# Altium footprint library POGO.PcbLib: 28 footprints (part 1 of 3)
Each footprint in its own frame and in the unit in brackets; x right, y up, seen from the top. Pads: shape width x height; smd on the part's side, far side on the other; paste and mask are expansions set on the pad; w line width, h text height; cw(c..) or ccw(c..) is an arc to the next point about the centre after c.
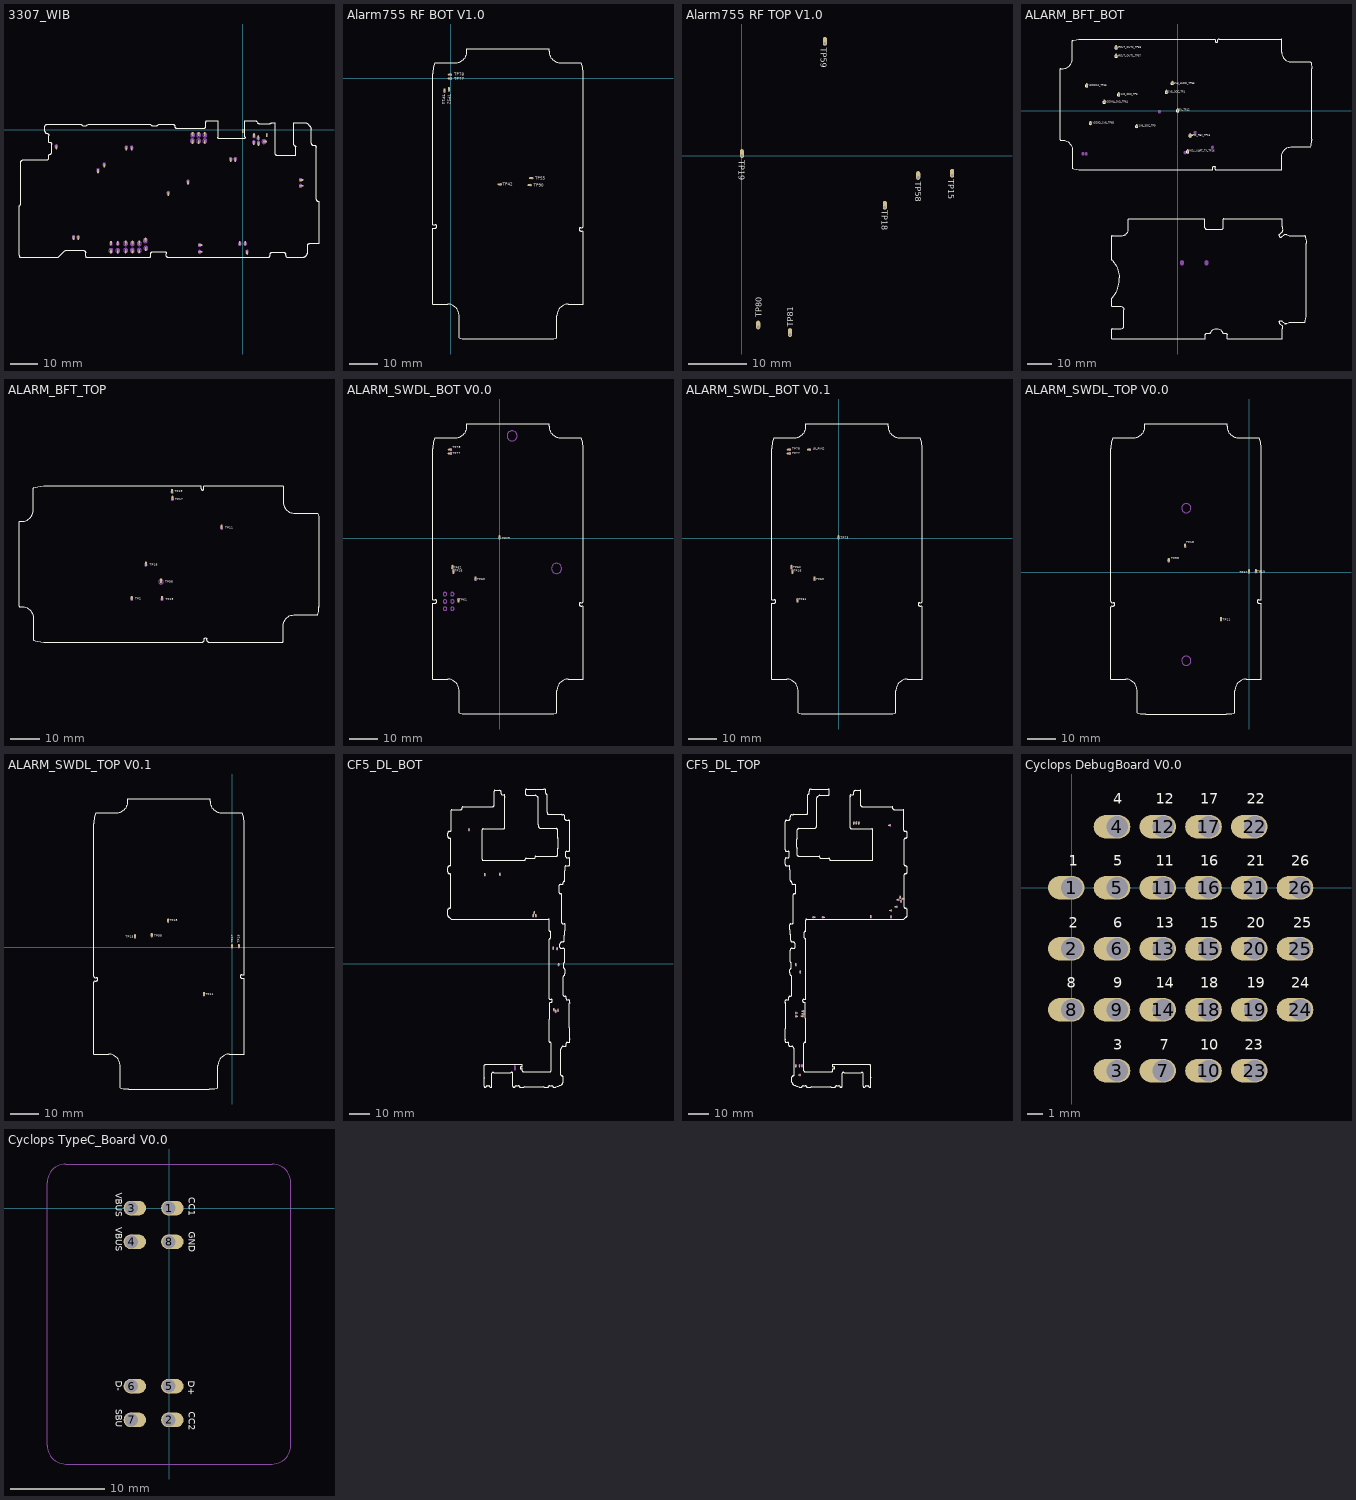
[diagram p0: the footprints below, top view; thin cyan lines are the x and y axes]

## 3307_WIB [mm]
pads (43):
  oval 0.65x1.5 hole 0.5 copper offset 0,-0.35: 1(-35.727,-43.531) 1(0,0) 1(8.865,-1.575) 3(-40.972,-6.481) 4(-42.937,-6.476) 5(-68.732,-6.041) 14(-18.571,-4.002) 15(-16.267,-4.024) 16(-13.987,-4.031) 17(-40.677,-44.381) 18(-2.752,-10.731) 19(-4.452,-10.731) 21(-62.37,-39.507) 22(-60.652,-39.517) 23(-20.174,-19.082) 24(-27.451,-23.19) 27(1.598,-44.906) 32(5.783,-4.756) 34(-38.177,-44.381) 35(-43.177,-44.381) 36(-48.602,-44.456) 37(-46.102,-44.456) 38(4.073,-4.506) 40(-51.052,-12.751) 41(-53.397,-14.881)
  oval 0.65x1.5 hole 0.5 copper offset 0,0.35: 2(-35.877,-40.806) 6(-48.602,-41.956) 7(-46.102,-41.956) 8(-43.177,-41.881) 9(-40.677,-41.881) 10(-38.177,-41.881) 11(-18.497,-1.836) 12(-16.277,-1.811) 13(-14.006,-1.877) 30(0.898,-42.006) 31(-1.102,-42.006) 33(5.713,-3.051) 39(4.123,-2.296)
  oval 1.5x0.65 hole 0.5 copper offset 0.35,0: 20(7.828,-4.291) 25(21.323,-20.606) 26(21.323,-18.406) 28(-15.902,-42.431) 29(-15.902,-44.931)
Top Overlay:
  drawing of 1098 lines, arcs and shapes, not listed
Mechanical 1:
  circle w0.013: c-53.397,-14.881 r0.51
  circle w0.013: c-51.052,-12.751 r0.225
  circle w0.013: c5.783,-4.756 r0.51
  circle w0.013: c5.783,-4.756 r0.225
  circle w0.013: c-15.902,-42.431 r0.51
  circle w0.013: c-15.902,-42.431 r0.225
  circle w0.013: c21.323,-18.406 r0.51
  circle w0.013: c21.323,-18.406 r0.225
  circle w0.013: c21.323,-20.606 r0.51
  circle w0.013: c21.323,-20.606 r0.225
  circle w0.013: c-27.451,-23.19 r0.51
  circle w0.013: c-27.451,-23.19 r0.225
  circle w0.013: c-20.174,-19.082 r0.51
  circle w0.013: c-20.174,-19.082 r0.225
  circle w0.013: c-2.752,-10.731 r0.51
  circle w0.013: c-4.452,-10.731 r0.51
  circle w0.013: c-2.752,-10.731 r0.225
  circle w0.013: c-4.452,-10.731 r0.225
  circle w0.013: c-38.177,-41.881 r0.75
  circle w0.013: c-40.677,-41.881 r0.75
  circle w0.013: c-43.177,-41.881 r0.75
  circle w0.013: c-38.177,-41.881 r0.225
  circle w0.013: c-43.177,-41.881 r0.225
  circle w0.013: c-40.677,-41.881 r0.225
  circle w0.013: c-42.937,-6.476 r0.51
  circle w0.013: c-42.937,-6.476 r0.225
  circle w0.013: c-35.877,-40.806 r0.75
  circle w0.013: c-35.877,-40.806 r0.225
  circle w0.013: c-35.727,-43.531 r0.75
  circle w0.013: c-35.727,-43.531 r0.225
  circle w0.013: c-40.972,-6.481 r0.225
  circle w0.013: c-40.972,-6.481 r0.51
  circle w0.013: c-68.732,-6.041 r0.225
  circle w0.013: c-68.732,-6.041 r0.51
  circle w0.013: c-48.602,-41.956 r0.225
  circle w0.013: c-48.602,-41.956 r0.51
  circle w0.013: c-46.102,-41.956 r0.225
  circle w0.013: c-46.102,-41.956 r0.51
  circle w0.013: c-14.006,-1.877 r0.225
  circle w0.013: c-18.497,-1.836 r0.225
  circle w0.013: c-16.277,-1.811 r0.225
  circle w0.013: c-18.497,-1.836 r0.75
  circle w0.013: c-16.277,-1.811 r0.75
  circle w0.013: c-14.006,-1.877 r0.75
  circle w0.013: c-18.571,-4.002 r0.225
  circle w0.013: c-13.987,-4.031 r0.225
  circle w0.013: c-16.267,-4.024 r0.225
  circle w0.013: c-18.571,-4.002 r0.75
  circle w0.013: c-16.267,-4.024 r0.75
  circle w0.013: c-13.987,-4.031 r0.75
  circle w0.013: c-40.677,-44.381 r0.225
  circle w0.013: c-40.677,-44.381 r0.75
  circle w0.013: c7.828,-4.291 r0.225
  circle w0.013: c7.828,-4.291 r0.75
  circle w0.013: c-62.37,-39.507 r0.225
  circle w0.013: c-60.652,-39.517 r0.225
  circle w0.013: c-62.37,-39.507 r0.51
  circle w0.013: c-60.652,-39.517 r0.51
  circle w0.013: c1.598,-44.906 r0.225
  circle w0.013: c1.598,-44.906 r0.51
  circle w0.013: c-15.902,-44.931 r0.225
  circle w0.013: c-15.902,-44.931 r0.51
  circle w0.013: c-1.102,-42.006 r0.225
  circle w0.013: c-1.102,-42.006 r0.51
  circle w0.013: c0.898,-42.006 r0.225
  circle w0.013: c0.898,-42.006 r0.51
  circle w0.013: c5.713,-3.051 r0.225
  circle w0.013: c5.713,-3.051 r0.51
  circle w0.013: c-38.177,-44.381 r0.225
  circle w0.013: c-38.177,-44.381 r0.75
  circle w0.013: c-48.602,-44.456 r0.225
  circle w0.013: c-46.102,-44.456 r0.225
  circle w0.013: c-43.177,-44.381 r0.225
  circle w0.013: c-46.102,-44.456 r0.75
  circle w0.013: c-48.602,-44.456 r0.75
  circle w0.013: c-43.177,-44.381 r0.75
  circle w0.013: c-51.052,-12.751 r0.51
  circle w0.013: c-53.397,-14.881 r0.225
  circle w0.013: c4.073,-4.506 r0.225
  circle w0.013: c4.073,-4.506 r0.51
  circle w0.013: c4.123,-2.296 r0.225
  circle w0.013: c4.123,-2.296 r0.51
  text "TP3478" at -53.541,-14.464 h0.05
  text "TP3474" at 5.623,-4.333 h0.05
  text "LCD_LEDK" at -0.635,-40.564 h1.52
  text "LCD_LEDA" at 1.372,-40.462 h1.52
  text "TP3472" at -16.317,-42.56 h0.05
  text "LCM_AVDD3" at 1.33,-46.298 h0.7
  text "LCM_VGH4" at 22.722,-21.026 h0.7
  text "LCM_AVDD4" at 22.778,-18.787 h0.7
  text "TP3462" at 20.92,-18.557 h0.05
  text "TP3463" at 20.92,-20.742 h0.05
  text "VCORE_PMU" at -19.872,-18.32 h0.7
  text "VPROC_PMU" at -27.212,-22.46 h0.7
  text "TP111" at -27.524,-22.774 h0.05
  text "TP110" at -20.285,-18.684 h0.05
  text "USB_HS_DP" at -3.017,-12.257 h0.7
  text "USB_HS_DN" at -4.719,-12.282 h0.7
  text "GND" at 9.361,-4.582 h0.7
  text "GND" at -14.357,-5.455 h0.7
  text "TP1405" at -2.886,-10.328 h0.05
  text "TP1407" at -4.587,-10.328 h0.05
  text "GND" at -41.027,-45.815 h0.7
  text "GND" at -16.618,-5.455 h0.7
  text "GND" at -18.98,-5.506 h0.7
  text "VBUS" at -13.608,-0.565 h0.7
  text "VBUS" at -15.869,-0.514 h0.7
  text "VBUS" at -18.079,-0.514 h0.7
  text "TP1204" at -38.293,-42.56 h0.05
  text "TP1217" at -43.297,-42.56 h0.05
  text "TP1203" at -40.808,-42.535 h0.05
  text "BAT_ON" at -48.243,-40.545 h0.7
  text "VOL_UP_N_DEBUG" at -42.478,-5.594 h0.7
  text "TP2002" at -43.068,-6.061 h0.05
  text "URXD0" at -35.503,-39.452 h0.7
  text "TP211" at -35.956,-41.494 h0.05
  text "UTXD0" at -36.125,-44.952 h0.7
  text "TP210" at -35.855,-42.916 h0.05
  text "TP2003" at -41.113,-6.061 h0.05
  text "VOL_DWON_N_DEBUG" at -40.75,-5.67 h0.7
  text "TP2001" at -68.849,-5.629 h0.05
  text "POWER_KEY" at -68.335,-5.289 h0.7
  text "TP1202" at -48.733,-42.433 h0.05
  text "TP1206" at -46.243,-42.433 h0.05
  text "BAT_ID" at -45.729,-40.57 h0.7
  text "VBAT" at -42.767,-40.519 h0.7
  text "VBAT" at -40.227,-40.545 h0.7
  text "VBAT" at -37.764,-40.57 h0.7
  text "TP1402" at -18.634,-2.505 h0.05
  text "TP1403" at -16.398,-2.505 h0.05
  text "TP1420" at -14.112,-2.555 h0.05
  text "TP1210" at -18.71,-3.394 h0.05
  text "TP2110" at -16.424,-3.394 h0.05
  text "TP1216" at -14.112,-3.394 h0.05
  text "TP1208" at -40.808,-43.754 h0.05
  text "TP1212" at 7.204,-4.41 h0.05
  text "TP2201" at -62.499,-39.106 h0.05
  text "TP2202" at -60.798,-39.106 h0.05
  text "SPK+" at -62.021,-38.741 h0.7
  text "SPK-" at -60.268,-38.741 h0.7
  text "TP3468" at 1.458,-44.491 h0.05
  text "TP3471" at -16.317,-45.075 h0.05
  text "LCM_ID" at -14.351,-42.748 h1.52
  text "LCM_Reset" at -14.402,-45.364 h1.52
  text "TP3465" at -1.26,-42.459 h0.05
  text "TP3466" at 0.772,-42.459 h0.05
  text "TP3475" at 5.573,-3.521 h0.05
  text "SBU2" at 5.426,-6.288 h0.7
  text "SBU1" at 6.055,-1.612 h0.7
  text "TP1209" at -38.319,-43.729 h0.05
  text "TP1213" at -48.758,-43.805 h0.05
  text "TP1214" at -46.243,-43.805 h0.05
  text "TP1211" at -43.297,-43.729 h0.05
  text "GND" at -38.525,-45.78 h0.7
  text "GND" at -43.554,-45.831 h0.7
  text "GND" at -46.463,-45.866 h0.7
  text "GND" at -48.965,-45.882 h0.7
  text "TP3477" at -51.196,-12.334 h0.05
  text "NTC-" at -50.718,-12.071 h0.7
  text "NTC+" at -53.054,-14.154 h0.7
  text "TP1408" at 3.947,-4.079 h0.05
  text "TP1410" at 3.972,-2.759 h0.05

## Alarm755 RF BOT V1.0 [mm]
pads (7):
  oval 1.5x0.7 hole 0.45 copper offset -0.35,0: 1(0,0) 2(0,1.3) 3(28.248,-34.652) 4(27.698,-37.052) 7(17.35,-36.75)
  oval 0.7x1.5 hole 0.45 copper offset 0,0.35: 5(-2.235,-4.5) 6(-0.7,-4.1)
Top Overlay:
  lines w0.2: -6.309,-78.393 -6.309,-51.996 -5.491,-51.996 ccw(c-5.491,-51.396) -5.491,-50.796 -6.309,-50.796 -6.309,1.604 cw(c5.796,1.604) -5.685,5.441 1.572,5.441 ccw(c1.572,9.447) 5.578,9.447 5.578,10.304 34.113,10.304 34.113,9.447 ccw(c38.119,9.447) 38.119,5.441 45.376,5.441 cw(c33.896,1.604) 46,1.604 46,-51.296 cw(c45.5,-51.296) 45.5,-51.796 45.183,-51.796 ccw(c45.183,-52.396) 45.183,-52.996 45.5,-52.996 cw(c45.5,-53.496) 46,-53.496 46,-78.393 40.83,-78.393 ccw(c40.83,-82.399) 36.824,-82.399 36.824,-90.14 cw(c33.896,-78.396) 33.896,-90.5 5.796,-90.5 cw(c5.796,-78.396) 2.867,-90.14 2.867,-82.399 ccw(c-1.139,-82.399) -1.139,-78.393 -6.309,-78.393
  text "TP42" at 18.107,-37.219 h1
  text "TP55" at 29.233,-35.138 h1
  text "TP90" at 28.775,-37.6 h1
  text "TP78" at 1.089,0.881 h1
  text "TP77" at 1.089,-0.643 h1
  text "TP52" at -1.07,-5.542 h1
  text "TP14" at -2.975,-5.542 h1
Mechanical 2:
  circle w0.013: c28.248,-34.652 r0.225
  circle w0.013: c0,0 r0.225
  circle w0.013: c27.698,-37.052 r0.225
  circle w0.013: c0,1.3 r0.225
  circle w0.013: c28.25,-34.65 r0.225
  circle w0.013: c0,0 r0.225
  circle w0.013: c0,1.3 r0.225
  circle w0.013: c27.7,-37.05 r0.225
  circle w0.013: c17.35,-36.75 r0.25
  circle w0.013: c-0.7,-4.1 r0.25
  circle w0.013: c-2.235,-4.5 r0.25
3D body: height 0.01, standoff 0, extent -0.013,-0.025 0.013,0

## Alarm755 RF TOP V1.0 [mm]
pads (7):
  oval 0.7x1.5 hole 0.45 copper offset 0,0.35: 1(0,0) 2(24.517,-8.862) 3(36.047,-3.38) 4(30.236,-3.76) 5(14.236,19.24) 6(2.8,-29.4) 7(8.25,-30.7)
Top Overlay:
  text "TP81" at 8.788,-29.356 h1
  text "TP18" at 24.004,-9.368 h1
  text "TP19" at -0.534,-0.781 h1
  text "TP80" at 3.428,-27.756 h1
  text "TP15" at 35.384,-4.06 h1
  text "TP58" at 29.694,-4.491 h1
  text "TP59" at 13.563,18.523 h1
Mechanical 2:
  circle w0.013: c0,0 r0.225
  circle w0.013: c14.236,19.241 r0.225
  circle w0.013: c36.047,-3.38 r0.225
  circle w0.013: c30.236,-3.759 r0.225
  circle w0.013: c24.517,-8.861 r0.225
  circle w0.013: c2.8,-29.4 r0.225
  circle w0.013: c8.25,-30.7 r0.225
3D body: height 0.01, standoff 0, extent -0.013,-0.025 0.013,0

## ALARM_BFT_BOT [mm]
pads (12):
  oval 0.7x1.5 hole 0.45 copper offset 0,0.35: 1(0,0) 2(-4.5,7.35) 3(-23.65,6.35) 4(-16.45,-6.4) 5(-2.1,10.9) 6(-36.5,10) 7(-29.45,3.4) 8(-35.05,-5.2) 9(5.022,-10.15) 10(-24.75,21.893) 11(-24.75,25.25) 12(4,-16.5)
Top Overlay:
  drawing of 459 lines, arcs and shapes, not listed
  text "MCU_UART_TX_TP16" at 4.678,-16.537 h0.7
  text "IRCUT_OUT2_TP56" at -23.867,25.082 h0.7
  text "IRCUT_OUT1_TP57" at -23.867,21.729 h0.7
  text "BRD_REV_TP13" at 5.694,-10.212 h0.7
  text "VDDIO_1V8_TP65" at -34.128,-5.221 h0.7
  text "1V0_SOC_TP8" at -22.774,6.209 h0.7
  text "5V_TP42" at 0.716,-0.103 h0.7
  text "1V5_SOC_TP4" at -3.754,7.162 h0.7
  text "1V8_SOC_TP9" at -15.713,-6.516 h0.7
  text "3V3_AVDD_TP55" at -1.443,10.616 h0.7
  text "VDDD12_TP46" at -35.708,9.879 h0.7
  text "VDDMA_3V3_TP64" at -28.82,3.212 h0.7
Mechanical 2:
  circle w0.013: c1.746,-61.159 r0.25
  circle w0.013: c-38.05,-17.35 r0.25
  circle w0.013: c-36.75,-17.35 r0.25
  circle w0.013: c-35.05,-5.2 r0.25
  circle w0.013: c-36.5,10 r0.25
  circle w0.013: c-29.45,3.4 r0.25
  circle w0.013: c-16.45,-6.4 r0.25
  circle w0.013: c-7.3,-0.45 r0.25
  circle w0.013: c0,0 r0.25
  circle w0.013: c3,-16.85 r0.25
  circle w0.013: c-24.75,25.25 r0.25
  circle w0.013: c-24.75,21.893 r0.25
  circle w0.013: c-23.65,6.35 r0.25
  circle w0.013: c-4.5,7.35 r0.25
  circle w0.013: c-2.1,10.9 r0.25
  circle w0.013: c11.546,-61.159 r0.25
  circle w0.013: c7.05,-8.8 r0.25
  circle w0.013: c5.022,-10.15 r0.25
  circle w0.013: c4,-16.5 r0.25
  circle w0.013: c13.995,-14.765 r0.25
  circle w0.013: c-24.75,25.25 r0.406
  circle w0.013: c-24.75,21.893 r0.406
  circle w0.013: c-2.1,10.9 r0.406
  circle w0.013: c-36.5,10 r0.406
  circle w0.013: c-4.5,7.35 r0.406
  circle w0.013: c-23.65,6.35 r0.406
  circle w0.013: c-29.45,3.4 r0.406
  circle w0.013: c0,0 r0.406
  circle w0.013: c-7.3,-0.45 r0.406
  circle w0.013: c-35.05,-5.2 r0.406
  circle w0.013: c-16.45,-6.4 r0.406
  circle w0.013: c7.05,-8.8 r0.406
  circle w0.013: c13.995,-14.765 r0.406
  circle w0.013: c4,-16.5 r0.406
  circle w0.013: c3,-16.85 r0.406
  circle w0.013: c-36.75,-17.35 r0.406
  circle w0.013: c-38.05,-17.35 r0.406
  circle w0.013: c11.546,-61.159 r0.75
  circle w0.013: c1.746,-61.159 r0.75
  circle w0.013: c5.022,-10.15 r0.406
  lines w0.013: -38.431,-17.731 -37.669,-17.731 -37.669,-16.969 -38.431,-16.969 -38.431,-17.731 ; -37.131,-17.731 -37.131,-16.969 -36.369,-16.969 -36.369,-17.731 -37.131,-17.731 ; -7.681,-0.831 -7.681,-0.069 -6.919,-0.069 -6.919,-0.831 -7.681,-0.831 ; 2.619,-17.231 2.619,-16.469 3.381,-16.469 3.381,-17.231 2.619,-17.231 ; 6.669,-9.181 6.669,-8.419 7.431,-8.419 7.431,-9.181 6.669,-9.181 ; 13.614,-15.146 13.614,-14.384 14.376,-14.384 14.376,-15.146 13.614,-15.146
  text "TP75" at -7.208,-0.069 h0.2
  text "TP8" at -23.595,6.655 h0.2
  text "TP9" at -16.394,-6.116 h0.2
  text "TP55" at -2.067,11.289 h0.2
  text "TP46" at -36.469,10.381 h0.2
  text "TP16" at 4.029,-16.124 h0.2
  text "TP61" at 14.047,-14.413 h0.2
  text "TP62" at 3.035,-16.506 h0.2
  text "TP63" at 7.102,-8.444 h0.2
  text "TP64" at -29.419,3.781 h0.2
  text "TP65" at -35.021,-4.822 h0.2
  text "TP57" at -24.695,22.263 h0.2
  text "TP77" at -36.725,-16.982 h0.2
  text "TP56" at -24.714,25.624 h0.2
  text "TP78" at -38.004,-16.979 h0.2
  text "TP42" at 0.018,0.39 h0.2
  text "TP4" at -4.42,7.615 h0.2
  text "TP11" at 12.003,-61.189 h0.2
  text "TP12" at 2.043,-61.102 h0.2
  text "TP13" at 5.046,-9.821 h0.2
3D body: height 0.01, standoff 0, extent -0.023,-0.029 0.002,-0.004

## ALARM_BFT_TOP [mm]
pads (7):
  oval 0.7x1.5 hole 0.45 copper offset 0,0.35: 1(-743.551,-1200.784) 2(-752.412,-1225.301) 3(-746.931,-1236.831) 4(-757.151,-1236.834) 5(-726.851,-1212.884) 6(-747.31,-1231.019) 7(-743.451,-1203.134)
Top Overlay:
  lines w0.2: -795.133,-1239.297 ccw(c-795.006,-1239.297) -795.006,-1239.423 -794.15,-1239.423 -793.897,-1239.432 -793.391,-1239.498 -792.901,-1239.63 -792.432,-1239.824 -791.993,-1240.077 -791.591,-1240.386 -791.232,-1240.745 -790.923,-1241.148 -790.669,-1241.587 -790.475,-1242.056 -790.344,-1242.546 -790.277,-1243.051 -790.269,-1243.305 -790.269,-1250.56 ccw(c-790.142,-1250.56) -790.182,-1250.68 -789.719,-1250.835 -789.709,-1250.838 -788.761,-1251.071 -788.751,-1251.073 -787.787,-1251.23 -787.777,-1251.231 -786.804,-1251.31 -786.799,-1251.31 -786.796,-1251.31 -786.794,-1251.31 -733.406,-1251.31 -733.306,-1251.31 ccw(c-733.306,-1251.184) -733.258,-1251.301 -733.074,-1251.225 ccw(c-733.122,-1251.107) -733.033,-1251.197 -732.892,-1251.057 ccw(c-732.982,-1250.967) -732.865,-1251.015 -732.788,-1250.832 ccw(c-732.906,-1250.783) -732.779,-1250.783 -732.779,-1250.373 -732.77,-1250.28 -732.697,-1250.105 -732.567,-1249.975 -732.397,-1249.905 -732.214,-1249.905 -732.044,-1249.975 -731.914,-1250.105 -731.842,-1250.28 -731.833,-1250.373 -731.833,-1250.783 ccw(c-731.706,-1250.783) -731.823,-1250.832 -731.747,-1251.015 ccw(c-731.63,-1250.967) -731.719,-1251.057 -731.579,-1251.197 ccw(c-731.489,-1251.107) -731.537,-1251.225 -731.354,-1251.301 ccw(c-731.305,-1251.184) -731.305,-1251.31 -706.308,-1251.31 ccw(c-706.308,-1251.184) -706.181,-1251.184 -706.181,-1246.016 -706.173,-1245.762 -706.106,-1245.257 -705.975,-1244.767 -705.781,-1244.298 -705.527,-1243.859 -705.218,-1243.456 -704.86,-1243.098 -704.457,-1242.789 -704.018,-1242.535 -703.549,-1242.341 -703.059,-1242.209 -702.554,-1242.143 -702.3,-1242.135 -694.561,-1242.135 ccw(c-694.561,-1242.008) -694.438,-1242.038 -694.348,-1241.68 -694.347,-1241.672 -694.212,-1240.945 -694.211,-1240.937 -694.12,-1240.203 -694.12,-1240.195 -694.075,-1239.457 -694.074,-1239.449 -694.074,-1210.979 -694.074,-1210.609 -694.075,-1210.602 -694.12,-1209.863 -694.12,-1209.856 -694.211,-1209.121 -694.212,-1209.114 -694.347,-1208.387 -694.348,-1208.379 -694.438,-1208.02 ccw(c-694.561,-1208.051) -694.561,-1207.924 -702.3,-1207.924 -702.554,-1207.916 -703.059,-1207.849 -703.549,-1207.718 -704.018,-1207.524 -704.457,-1207.27 -704.86,-1206.961 -705.218,-1206.602 -705.527,-1206.2 -705.781,-1205.76 -705.975,-1205.291 -706.106,-1204.801 -706.173,-1204.296 -706.181,-1204.042 -706.181,-1198.875 ccw(c-706.308,-1198.875) -706.308,-1198.748 -732.706,-1198.748 ccw(c-732.706,-1198.875) -732.833,-1198.875 -732.833,-1199.686 -732.842,-1199.778 -732.914,-1199.954 -733.044,-1200.083 -733.214,-1200.154 -733.397,-1200.154 -733.567,-1200.083 -733.697,-1199.954 -733.77,-1199.778 -733.779,-1199.686 -733.779,-1198.875 ccw(c-733.906,-1198.875) -733.906,-1198.748 -786.794,-1198.748 -786.796,-1198.748 -786.799,-1198.748 -786.804,-1198.748 -787.777,-1198.827 -787.787,-1198.828 -788.751,-1198.985 -788.761,-1198.987 -789.709,-1199.221 -789.719,-1199.224 -790.182,-1199.379 ccw(c-790.142,-1199.499) -790.269,-1199.499 -790.269,-1206.754 -790.277,-1207.007 -790.344,-1207.512 -790.475,-1208.003 -790.669,-1208.471 -790.923,-1208.911 -791.232,-1209.313 -791.591,-1209.672 -791.993,-1209.981 -792.432,-1210.235 -792.901,-1210.429 -793.391,-1210.56 -793.897,-1210.627 -794.15,-1210.635 -795.006,-1210.635 ccw(c-795.006,-1210.762) -795.133,-1210.762 -795.133,-1239.297
  text "TP58" at -745.903,-1231.322 h0.7
  text "TP18" at -751.11,-1225.556 h0.7
  text "TP2" at -755.986,-1237.113 h0.7
  text "TP17" at -742.423,-1203.509 h0.7
  text "TP11" at -725.684,-1213.136 h0.7
  text "TP15" at -745.649,-1237.24 h0.7
  text "TP19" at -742.626,-1200.918 h0.7
Mechanical 2:
  circle w0.013: c-743.551,-1200.784 r0.25
  circle w0.013: c-743.451,-1203.134 r0.25
  circle w0.013: c-726.851,-1212.884 r0.25
  circle w0.013: c-752.412,-1225.301 r0.25
  circle w0.013: c-747.31,-1231.019 r0.25
  circle w0.013: c-757.151,-1236.834 r0.25
  circle w0.013: c-746.931,-1236.831 r0.25
  circle w0.013: c-757.151,-1236.834 r0.406
  circle w0.013: c-746.931,-1236.831 r0.406
  circle w0.013: c-747.31,-1231.019 r0.775
  circle w0.013: c-752.412,-1225.301 r0.406
  circle w0.013: c-726.851,-1212.884 r0.406
  circle w0.013: c-743.451,-1203.134 r0.406
  circle w0.013: c-743.551,-1200.784 r0.406
3D body: height 0.01, standoff 0, extent -743.551,-1200.809 -743.525,-1200.784

## ALARM_SWDL_BOT V0.0 [mm]
pads (7):
  oval 0.7x1.5 hole 0.45 copper offset 0,0.35: 1(0,0) 4(-16.4,-10.3) 5(-8.35,-14.35)
  oval 0.7x1.5 hole 0.45 copper offset 0,-0.35: 2(-16.05,-11.3) 3(-14.315,-21.295)
  oval 1.5x0.7 hole 0.45 copper offset -0.35,0: 6(-16.9,29.45) 7(-16.9,30.75)
Top Overlay:
  lines w0.2: 17.213,39.754 17.213,38.897 ccw(c21.219,38.897) 21.219,34.891 28.476,34.891 cw(c16.996,31.054) 29.1,31.054 29.1,-21.846 cw(c28.6,-21.846) 28.6,-22.346 28.283,-22.346 ccw(c28.283,-22.946) 28.283,-23.546 28.6,-23.546 cw(c28.6,-24.046) 29.1,-24.046 29.1,-48.943 23.93,-48.943 ccw(c23.93,-52.949) 19.924,-52.949 19.924,-60.69 cw(c16.996,-48.946) 16.996,-61.05 -11.104,-61.05 cw(c-11.104,-48.946) -14.033,-60.69 -14.033,-52.949 ccw(c-18.039,-52.949) -18.039,-48.943 -23.209,-48.943 -23.209,-22.546 -22.391,-22.546 ccw(c-22.391,-21.946) -22.391,-21.346 -23.209,-21.346 -23.209,31.054 cw(c-11.104,31.054) -22.585,34.891 -15.328,34.891 ccw(c-15.328,38.897) -11.322,38.897 -11.322,39.754 17.213,39.754
  text "TP78" at -16.3,31.306 h0.7
  text "TP77" at -16.196,29.237 h0.7
  text "TP75" at 0.863,-0.371 h0.7
  text "TP62" at -15.85,-10.531 h0.7
  text "TP16" at -15.545,-11.674 h0.7
  text "TP61" at -13.919,-21.631 h0.7
  text "TP63" at -7.798,-14.621 h0.7
Mechanical 1:
  circle w0.013: c-18.94,-24.49 r0.6
  circle w0.013: c-18.94,-19.41 r0.6
  circle w0.013: c-18.94,-21.95 r0.6
  circle w0.013: c-16.4,-21.95 r0.6
  circle w0.013: c-16.4,-19.41 r0.6
  circle w0.013: c-16.4,-24.49 r0.6
  circle w0.013: c19.796,-10.496 r1.75
  circle w0.013: c4.35,35.55 r1.75
Mechanical 2:
  circle w0.013: c-14.315,-21.295 r0.25
  circle w0.013: c-8.35,-14.35 r0.25
  circle w0.013: c-16.05,-11.3 r0.25
  circle w0.013: c-16.4,-10.3 r0.25
  circle w0.013: c0,0 r0.25
  circle w0.013: c-16.9,29.45 r0.25
  circle w0.013: c-16.9,30.75 r0.25
  circle w0.013: c0,0 r0.3
  circle w0.013: c-16.4,-10.3 r0.3
  circle w0.013: c-16.05,-11.3 r0.3
  circle w0.013: c-8.35,-14.35 r0.3
  circle w0.013: c-14.315,-21.295 r0.3
  circle w0.013: c-16.9,29.45 r0.3
  circle w0.013: c-16.9,30.75 r0.3
3D body: height 0.01, standoff 0, extent -0.023,-0.029 0.002,-0.004

## ALARM_SWDL_BOT V0.1 [mm]
pads (8):
  oval 0.7x1.5 hole 0.45 copper offset 0,0.35: 1(0,0) 4(-16.4,-10.3) 5(-8.35,-14.35)
  oval 0.7x1.5 hole 0.45 copper offset 0,-0.35: 2(-16.05,-11.3) 3(-14.315,-21.295)
  oval 1.5x0.7 hole 0.45 copper offset -0.35,0: 6(-16.9,29.45) 7(-16.9,30.75) 8(-9.916,30.75)
Top Overlay:
  lines w0.2: 17.213,39.754 17.213,38.897 ccw(c21.219,38.897) 21.219,34.891 28.476,34.891 cw(c16.996,31.054) 29.1,31.054 29.1,-21.846 cw(c28.6,-21.846) 28.6,-22.346 28.283,-22.346 ccw(c28.283,-22.946) 28.283,-23.546 28.6,-23.546 cw(c28.6,-24.046) 29.1,-24.046 29.1,-48.943 23.93,-48.943 ccw(c23.93,-52.949) 19.924,-52.949 19.924,-60.69 cw(c16.996,-48.946) 16.996,-61.05 -11.104,-61.05 cw(c-11.104,-48.946) -14.033,-60.69 -14.033,-52.949 ccw(c-18.039,-52.949) -18.039,-48.943 -23.209,-48.943 -23.209,-22.546 -22.391,-22.546 ccw(c-22.391,-21.946) -22.391,-21.346 -23.209,-21.346 -23.209,31.054 cw(c-11.104,31.054) -22.585,34.891 -15.328,34.891 ccw(c-15.328,38.897) -11.322,38.897 -11.322,39.754 17.213,39.754
  text "TP63" at -7.741,-14.564 h0.7
  text "TP61" at -13.862,-21.574 h0.7
  text "TP16" at -15.488,-11.617 h0.7
  text "TP62" at -15.793,-10.474 h0.7
  text "TP75" at 0.832,-0.209 h0.7
  text "TP77" at -16.008,29.229 h0.7
  text "TP78" at -16.11,30.804 h0.7
  text "J8_PIN2" at -8.82,30.768 h0.7
Mechanical 2:
  circle w0.013: c-14.315,-21.295 r0.25
  circle w0.013: c-16.4,-10.3 r0.25
  circle w0.013: c-16.05,-11.3 r0.25
  circle w0.013: c-8.35,-14.35 r0.25
  circle w0.013: c0,0 r0.25
  circle w0.013: c-16.9,30.75 r0.25
  circle w0.013: c-16.9,29.45 r0.25
  circle w0.013: c-9.916,30.75 r0.25
3D body: height 0.01, standoff 0, extent -0.023,-0.029 0.002,-0.004

## ALARM_SWDL_TOP V0.0 [mm]
pads (5):
  oval 0.7x1.5 hole 0.45 copper offset 0,0.35: 1(0,0) 2(-27.886,3.859) 3(-9.75,-16.6) 4(2.35,0.1) 5(-22.167,8.961)
Top Overlay:
  lines w0.2: -48.05,-37.143 -48.05,-12.246 cw(c-47.55,-12.246) -47.55,-11.746 -47.233,-11.746 ccw(c-47.233,-11.146) -47.233,-10.546 -47.55,-10.546 cw(c-47.55,-10.046) -48.05,-10.046 -48.05,42.854 cw(c-35.946,42.854) -47.426,46.691 -40.169,46.691 ccw(c-40.169,50.697) -36.163,50.697 -36.163,51.554 -7.628,51.554 -7.628,50.697 ccw(c-3.622,50.697) -3.622,46.691 3.635,46.691 cw(c-7.846,42.854) 4.259,42.854 4.259,-9.546 3.441,-9.546 ccw(c3.441,-10.146) 3.441,-10.746 4.259,-10.746 4.259,-37.143 -0.911,-37.143 ccw(c-0.911,-41.149) -4.917,-41.149 -4.917,-48.89 cw(c-7.846,-37.146) -7.846,-49.25 -35.946,-49.25 cw(c-35.946,-37.146) -38.874,-48.89 -38.874,-41.149 ccw(c-42.88,-41.149) -42.88,-37.143 -48.05,-37.143
  text "TP58" at -27.046,4.525 h0.7
  text "TP11" at -9.163,-16.932 h0.7
  text "TP17" at -3.22,-0.295 h0.7
  text "TP18" at -21.784,9.976 h0.7
  text "TP19" at 2.825,-0.219 h0.7
Mechanical 1:
  circle w0.013: c-21.8,22.25 r1.6
  circle w0.013: c-21.8,-30.75 r1.6
Mechanical 2:
  circle w0.013: c-9.75,-16.6 r0.25
  circle w0.013: c0,0 r0.25
  circle w0.013: c-22.167,8.961 r0.25
  circle w0.013: c-27.886,3.859 r0.25
  circle w0.013: c-27.886,3.859 r0.3
  circle w0.013: c-22.167,8.961 r0.3
  circle w0.013: c0,0 r0.3
  circle w0.013: c-9.75,-16.6 r0.3
  circle w0.013: c2.35,0.1 r0.25
  circle w0.013: c2.35,0.1 r0.3
3D body: height 0.01, standoff 0, extent -0.023,-0.029 0.002,-0.004

## ALARM_SWDL_TOP V0.1 [mm]
pads (6):
  oval 0.7x1.5 hole 0.45 copper offset 0,0.35: 1(0,0) 2(-27.886,3.859) 3(-9.75,-16.6) 4(2.35,0.1) 5(-22.167,8.961) 6(-33.697,3.48)
Top Overlay:
  lines w0.2: -48.05,-37.143 -42.88,-37.143 cw(c-42.88,-41.149) -38.874,-41.149 -38.874,-48.89 ccw(c-35.946,-37.146) -35.946,-49.25 -7.846,-49.25 ccw(c-7.846,-37.146) -4.917,-48.89 -4.917,-41.149 cw(c-0.911,-41.149) -0.911,-37.143 4.259,-37.143 4.259,-10.746 3.441,-10.746 cw(c3.441,-10.146) 3.441,-9.546 4.259,-9.546 4.259,42.854 ccw(c-7.846,42.854) 3.635,46.691 -3.622,46.691 cw(c-3.622,50.697) -7.628,50.697 -7.628,51.554 -36.163,51.554 -36.163,50.697 cw(c-40.169,50.697) -40.169,46.691 -47.426,46.691 ccw(c-35.946,42.854) -48.05,42.854 -48.05,-10.046 ccw(c-47.55,-10.046) -47.55,-10.546 -47.233,-10.546 cw(c-47.233,-11.146) -47.233,-11.746 -47.55,-11.746 ccw(c-47.55,-12.246) -48.05,-12.246 -48.05,-37.143
  text "TP18" at -21.571,9.011 h0.7
  text "TP19" at 2.673,1.594 h0.7
  text "TP17" at 0.362,1.619 h0.7
  text "TP11" at -9.074,-16.745 h0.7
  text "TP58" at -26.956,3.677 h0.7
  text "TP15" at -36.912,3.321 h0.7
Mechanical 1:
  circle w0.013: c-9.75,-16.6 r0.25
  circle w0.013: c-22.167,8.961 r0.25
  circle w0.013: c-33.697,3.48 r0.25
  circle w0.013: c-27.886,3.859 r0.25
  circle w0.013: c0,0 r0.25
  circle w0.013: c2.35,0.1 r0.25
3D body: height 0.01, standoff 0, extent -0.023,-0.029 0.002,-0.004

## CF5_DL_BOT [mm]
pads (12):
  oval 0.7x1.5 hole 0.45 copper offset 0,0.35: 1(243.351,-0.584) 2(231.994,23.776) 3(231.222,25.174) 4(230.655,23.754) 5(240.99,-23.091) 6(241.857,-23.995) 7(243.049,-23.455) 8(240.659,7.459) 9(242.581,7.316) 14(198.601,66.766) 17(206.491,44.266) 18(214.033,44.402)
Top Overlay:
  drawing of 281 lines, arcs and shapes, not listed
Mechanical 1:
  circle w0.013: c198.601,66.766 r0.25
  circle w0.013: c198.601,66.766 r0.318
  circle w0.013: c206.491,44.266 r0.25
  circle w0.013: c206.491,44.266 r0.318
  circle w0.013: c214.033,44.402 r0.25
  circle w0.013: c214.033,44.402 r0.318
  circle w0.013: c230.655,23.754 r0.25
  circle w0.013: c231.994,23.776 r0.25
  circle w0.013: c231.994,23.776 r0.318
  circle w0.013: c231.222,25.174 r0.25
  circle w0.013: c240.659,7.459 r0.318
  circle w0.013: c240.659,7.459 r0.25
  circle w0.013: c242.581,7.316 r0.25
  circle w0.013: c242.581,7.316 r0.318
  circle w0.013: c243.351,-0.584 r0.25
  circle w0.013: c240.99,-23.091 r0.25
  circle w0.013: c240.99,-23.091 r0.318
  circle w0.013: c241.857,-23.995 r0.25
  circle w0.013: c241.857,-23.995 r0.318
  circle w0.013: c243.049,-23.455 r0.25
  circle w0.013: c243.049,-23.455 r0.318
  circle w0.013: c221.514,-51.306 r0.318
  circle w0.013: c221.514,-51.306 r0.25
  circle w0.013: c221.531,-52.564 r0.318
  circle w0.013: c221.531,-52.564 r0.25
  lines w0.013: 231.676,23.776 ccw(c231.994,23.776) 232.311,23.776 ; 231.676,23.776 ccw(c231.994,23.776) 232.311,23.776 ; 231.676,23.776 cw(c231.994,23.776) 232.311,23.776 ; 231.676,23.776 cw(c231.994,23.776) 232.311,23.776 ; 198.283,66.766 ccw(c198.601,66.766) 198.918,66.766 ccw(c198.601,66.766) 198.283,66.766 ; 206.173,44.266 ccw(c206.491,44.266) 206.808,44.266 ccw(c206.491,44.266) 206.173,44.266 ; 213.715,44.402 ccw(c214.033,44.402) 214.35,44.402 ccw(c214.033,44.402) 213.715,44.402 ; 221.196,-51.306 ccw(c221.514,-51.306) 221.831,-51.306 ccw(c221.514,-51.306) 221.196,-51.306 ; 221.213,-52.564 ccw(c221.531,-52.564) 221.848,-52.564 ccw(c221.531,-52.564) 221.213,-52.564 ; 230.338,23.754 cw(c230.655,23.754) 230.973,23.754 cw(c230.655,23.754) 230.338,23.754 ; 230.904,25.174 ccw(c231.222,25.174) 231.539,25.174 ccw(c231.222,25.174) 230.904,25.174 ; 240.342,7.459 ccw(c240.659,7.459) 240.977,7.459 ccw(c240.659,7.459) 240.342,7.459 ; 240.672,-23.091 ccw(c240.99,-23.091) 241.307,-23.091 ccw(c240.99,-23.091) 240.672,-23.091 ; 241.539,-23.995 ccw(c241.857,-23.995) 242.174,-23.995 ccw(c241.857,-23.995) 241.539,-23.995 ; 242.264,7.316 cw(c242.581,7.316) 242.899,7.316 cw(c242.581,7.316) 242.264,7.316 ; 242.731,-23.455 ccw(c243.049,-23.455) 243.366,-23.455 ccw(c243.049,-23.455) 242.731,-23.455 ; 243.033,-0.584 ccw(c243.351,-0.584) 243.668,-0.584 ccw(c243.351,-0.584) 243.033,-0.584
Mechanical 2:
  text "MTP13010" at 242.31,6.458 h0.7
  text "MTP13011" at 240.202,6.686 h0.7
  text "MTP14004" at 198.342,65.373 h0.7
  text "MTP14012" at 213.633,42.945 h0.7
  text "MTP16001" at 241.255,-21.545 h0.7
  text "MTP16002" at 242.348,-22.511 h0.7
  text "MTP16003" at 243.414,-21.977 h0.7
  text "MTP25006" at 222.168,-51.594 h0.7
  text "MTP25005" at 222.142,-52.991 h0.7
  text "MTP14021" at 206.216,42.818 h0.7
  text "MTP18008" at 243.046,-1.416 h0.7
  text "MTP16074" at 230.931,26.842 h0.7
  text "MTP16075" at 224.784,23.667 h0.7
  text "MTP16073" at 232.861,23.641 h0.7
3D body: height 0.01, standoff 0, extent 243.341,-0.584 243.366,-0.559

## CF5_DL_TOP [mm]
pads (25):
  oval 1.5x0.7 hole 0.45 copper offset 0.35,0: 1(108.956,139.386) 3(100.23,91.655) 4(100.27,89.94) 12(153.443,148.637) 18(113.617,139.386)
  oval 0.7x1.5 hole 0.45 copper offset 0,0.35: 2(137.665,139.475) 13(152.29,149.14) 19(147.725,139.45) 20(100.213,115.475) 21(102.48,111.87)
  oval 1.5x0.7 hole 0.45 copper offset -0.35,0: 5(150.545,144.72) 6(147.87,142.816) 7(104.14,91.31) 8(104.22,92.56) 9(103.77,90.11) 10(147.425,185.289) 14(151.5,148.16) 22(102.393,60.703)
  oval 0.7x1.5 hole 0.45 copper offset 0,-0.35: 11(152.73,147.61) 15(129.22,186.705) 16(130.49,186.735) 17(131.745,186.705) 23(102.062,65.472) 24(103.343,65.467) 25(100.243,65.473)
Top Overlay:
  drawing of 843 lines, arcs and shapes, not listed
Mechanical 1:
  circle w0.013: c102.393,60.703 r0.25
  circle w0.013: c102.393,60.703 r0.25
  circle w0.013: c100.243,65.473 r0.25
  circle w0.013: c100.243,65.473 r0.25
  circle w0.013: c102.062,65.472 r0.25
  circle w0.013: c102.062,65.472 r0.25
  circle w0.013: c103.343,65.467 r0.25
  circle w0.013: c103.343,65.467 r0.25
  circle w0.013: c100.23,91.655 r0.25
  circle w0.013: c100.23,91.655 r0.25
  circle w0.013: c100.27,89.94 r0.25
  circle w0.013: c100.27,89.94 r0.25
  circle w0.013: c103.77,90.11 r0.25
  circle w0.013: c103.77,90.11 r0.25
  circle w0.013: c104.14,91.31 r0.25
  circle w0.013: c104.14,91.31 r0.25
  circle w0.013: c104.22,92.56 r0.25
  circle w0.013: c104.22,92.56 r0.25
  circle w0.013: c102.48,111.87 r0.25
  circle w0.013: c102.48,111.87 r0.25
  circle w0.013: c100.213,115.475 r0.25
  circle w0.013: c100.213,115.475 r0.25
  circle w0.013: c113.617,139.386 r0.25
  circle w0.013: c113.617,139.386 r0.25
  circle w0.013: c108.956,139.386 r0.25
  circle w0.013: c108.956,139.386 r0.25
  circle w0.013: c137.665,139.475 r0.25
  circle w0.013: c137.665,139.475 r0.25
  circle w0.013: c151.5,148.16 r0.25
  circle w0.013: c152.73,147.61 r0.25
  circle w0.013: c152.73,147.61 r0.25
  circle w0.013: c151.5,148.16 r0.25
  circle w0.013: c153.443,148.637 r0.25
  circle w0.013: c152.29,149.14 r0.25
  circle w0.013: c153.443,148.637 r0.25
  circle w0.013: c152.29,149.14 r0.25
  circle w0.013: c147.725,139.45 r0.25
  circle w0.013: c147.725,139.45 r0.25
  circle w0.013: c147.87,142.816 r0.25
  circle w0.013: c147.87,142.816 r0.25
  circle w0.013: c150.545,144.72 r0.25
  circle w0.013: c150.545,144.72 r0.25
  circle w0.013: c129.22,186.705 r0.25
  circle w0.013: c130.49,186.735 r0.25
  circle w0.013: c131.745,186.705 r0.25
  circle w0.013: c131.745,186.705 r0.25
  circle w0.013: c129.22,186.705 r0.25
  circle w0.013: c130.49,186.735 r0.25
  circle w0.013: c147.425,185.289 r0.25
  circle w0.013: c147.425,185.289 r0.25
  lines w0.013: 99.926,65.473 cw(c100.243,65.473) 100.561,65.473 ; 99.926,65.473 cw(c100.243,65.473) 100.561,65.473 ; 99.926,65.473 ccw(c100.243,65.473) 100.561,65.473 ; 99.926,65.473 ccw(c100.243,65.473) 100.561,65.473 ; 101.745,65.472 cw(c102.062,65.472) 102.38,65.472 ; 101.745,65.472 cw(c102.062,65.472) 102.38,65.472 ; 101.745,65.472 ccw(c102.062,65.472) 102.38,65.472 ; 101.745,65.472 ccw(c102.062,65.472) 102.38,65.472 ; 102.076,60.703 cw(c102.393,60.703) 102.711,60.703 ; 102.076,60.703 cw(c102.393,60.703) 102.711,60.703 ; 102.076,60.703 ccw(c102.393,60.703) 102.711,60.703 ; 102.076,60.703 ccw(c102.393,60.703) 102.711,60.703 ; 103.026,65.467 cw(c103.343,65.467) 103.661,65.467 ; 103.026,65.467 cw(c103.343,65.467) 103.661,65.467 ; 103.026,65.467 ccw(c103.343,65.467) 103.661,65.467 ; 103.026,65.467 ccw(c103.343,65.467) 103.661,65.467 ; 99.895,115.475 cw(c100.213,115.475) 100.53,115.475 cw(c100.213,115.475) 99.895,115.475 ; 99.913,91.655 ccw(c100.23,91.655) 100.548,91.655 ccw(c100.23,91.655) 99.913,91.655 ; 99.953,89.94 ccw(c100.27,89.94) 100.588,89.94 ccw(c100.27,89.94) 99.953,89.94 ; 102.163,111.87 cw(c102.48,111.87) 102.798,111.87 cw(c102.48,111.87) 102.163,111.87 ; 103.453,90.11 cw(c103.77,90.11) 104.088,90.11 cw(c103.77,90.11) 103.453,90.11 ; 103.823,91.31 cw(c104.14,91.31) 104.458,91.31 cw(c104.14,91.31) 103.823,91.31 ; 103.903,92.56 cw(c104.22,92.56) 104.538,92.56 cw(c104.22,92.56) 103.903,92.56 ; 108.638,139.386 cw(c108.956,139.386) 109.273,139.386 cw(c108.956,139.386) 108.638,139.386 ; 113.299,139.386 cw(c113.617,139.386) 113.934,139.386 cw(c113.617,139.386) 113.299,139.386 ; 128.903,186.705 cw(c129.22,186.705) 129.538,186.705 cw(c129.22,186.705) 128.903,186.705 ; 130.173,186.735 cw(c130.49,186.735) 130.808,186.735 cw(c130.49,186.735) 130.173,186.735 ; 131.428,186.705 ccw(c131.745,186.705) 132.063,186.705 ccw(c131.745,186.705) 131.428,186.705 ; 137.348,139.475 ccw(c137.665,139.475) 137.983,139.475 ccw(c137.665,139.475) 137.348,139.475 ; 147.108,185.289 ccw(c147.425,185.289) 147.743,185.289 ccw(c147.425,185.289) 147.108,185.289 ; 147.408,139.45 cw(c147.725,139.45) 148.043,139.45 cw(c147.725,139.45) 147.408,139.45 ; 147.553,142.816 ccw(c147.87,142.816) 148.188,142.816 ccw(c147.87,142.816) 147.553,142.816 ; 150.228,144.72 cw(c150.545,144.72) 150.863,144.72 cw(c150.545,144.72) 150.228,144.72 ; 151.183,148.16 ccw(c151.5,148.16) 151.818,148.16 ccw(c151.5,148.16) 151.183,148.16 ; 151.973,149.14 ccw(c152.29,149.14) 152.608,149.14 ccw(c152.29,149.14) 151.973,149.14 ; 152.413,147.61 cw(c152.73,147.61) 153.048,147.61 cw(c152.73,147.61) 152.413,147.61 ; 153.126,148.637 ccw(c153.443,148.637) 153.761,148.637 ccw(c153.443,148.637) 153.126,148.637
Mechanical 2:
  text "MTP20102" at 155.112,148.406 h0.7
  text "MTP20101" at 153.486,146.73 h0.7
  text "MTP20106" at 152.584,150.971 h0.7
  text "MTP20105" at 144.698,147.796 h0.7
  text "MTP22905" at 148.381,184.957 h0.7
  text "MTP25030" at 131.591,184.867 h0.7
  text "MTP25031" at 130.194,184.766 h0.7
  text "MTP25032" at 128.797,184.842 h0.7
  text "MTP16081" at 151.149,144.444 h0.7
  text "MTP16079" at 148.736,142.539 h0.7
  text "MTP16076" at 138.5,139.11 h0.7
  text "MTP16080" at 148.558,139.084 h0.7
  text "MTP18007" at 109.302,140.227 h0.7
  text "MTP16005" at 105.226,92.348 h0.7
  text "MTP16004" at 105.099,90.951 h0.7
  text "MTP16072" at 104.794,89.63 h0.7
  text "MTP20103" at 103.664,66.313 h0.7
  text "MTP16213" at 103.448,111.551 h0.7
  text "MTP16008" at 94.38,89.63 h0.7
  text "MTP16007" at 94.304,91.358 h0.7
  text "MTP16214" at 101.137,115.208 h0.7
  text "MTP20104" at 100.59,66.339 h0.7
  text "MTP20002" at 102.343,66.313 h0.7
  text "MTP20001" at 103.321,60.344 h0.7
  text "MTP14020" at 114.001,140.202 h0.7
3D body: height 0.01, standoff 0, extent 108.939,139.385 108.965,139.411

## Cyclops DebugBoard V0.0 [mm]
pads (26):
  oval 2.4x1.55 hole 1.4 copper offset -0.35,0: 1(0,0) 2(0,-4) 3(3,-12) 4(3,4) 5(3,0) 6(3,-4) 7(6,-12) 8(0,-8) 9(3,-8) 10(9,-12) 11(6,0) 12(6,4) 13(6,-4) 14(6,-8) 15(9,-4) 16(9,0) 17(9,4) 18(9,-8) 19(12,-8) 20(12,-4) 21(12,0) 22(12,4) 23(12,-12) 24(15,-8) 25(15,-4) 26(15,0)
Top Overlay:
  text "23" at 11.358,-10.842 h1.2
  text "18" at 8.438,-6.779 h1.2
  text "25" at 14.533,-2.842 h1.2
  text "20" at 11.485,-2.842 h1.2
  text "15" at 8.438,-2.842 h1.2
  text "13" at 5.517,-2.841 h1.2
  text "26" at 14.406,1.222 h1.2
  text "21" at 11.485,1.209 h1.2
  text "16" at 8.438,1.222 h1.2
  text "22" at 11.485,5.273 h1.2
  text "17" at 8.438,5.273 h1.2
  text "9" at 2.723,-6.779 h1.2
  text "8" at -0.325,-6.779 h1.2
  text "7" at 5.771,-10.856 h1.2
  text "6" at 2.723,-2.842 h1.2
  text "4" at 2.723,5.273 h1.2
  text "5" at 2.723,1.222 h1.2
  text "1" at -0.198,1.209 h1.2
  text "2" at -0.199,-2.855 h1.2
  text "3" at 2.723,-10.842 h1.2
  text "10" at 8.438,-10.843 h1.2
  text "11" at 5.517,1.209 h1.2
  text "12" at 5.517,5.273 h1.2
  text "14" at 5.517,-6.792 h1.2
  text "19" at 11.486,-6.779 h1.2
  text "24" at 14.406,-6.792 h1.2
Mechanical 1:
  circle w0.013: c0,-4 r0.7
  circle w0.013: c0,-8 r0.7
  circle w0.013: c9,4 r0.7
  circle w0.013: c9,0 r0.7
  circle w0.013: c6,4 r0.7
  circle w0.013: c9,-12 r0.7
  circle w0.013: c9,-8 r0.7
  circle w0.013: c9,-4 r0.7
  circle w0.013: c12,4 r0.7
  circle w0.013: c12,0 r0.7
  circle w0.013: c15,-4 r0.7
  circle w0.013: c15,-8 r0.7
  circle w0.013: c0,0 r0.7
  circle w0.013: c12,-12 r0.7
  circle w0.013: c12,-8 r0.7
  circle w0.013: c12,-4 r0.7
  circle w0.013: c3,-12 r0.7
  circle w0.013: c3,-8 r0.7
  circle w0.013: c3,-4 r0.7
  circle w0.013: c3,0 r0.7
  circle w0.013: c3,4 r0.7
  circle w0.013: c6,-12 r0.7
  circle w0.013: c6,-8 r0.7
  circle w0.013: c6,-4 r0.7
  circle w0.013: c6,0 r0.7
  circle w0.013: c15,0 r0.7
3D body: height 0.01, standoff 0, extent -0.013,-0.013 0.013,0.012

## Cyclops TypeC_Board V0.0 [mm]
pads (8):
  oval 2.4x1.55 hole 1.4 copper offset 0.35,0: 1(0,0) 2(0,-22.6) 3(-4,0) 4(-4,-3.6) 5(0,-19) 6(-4,-19) 7(-4,-22.6) 8(0,-3.6)
Top Overlay:
  text "D-" at -5.937,-18.422 h1.2
  text "D+" at 1.81,-18.422 h1.2
  text "SBU" at -5.925,-21.47 h1.2
  text "CC2" at 1.822,-21.724 h1.2
  text "VBUS" at -5.925,1.644 h1.2
  text "VBUS" at -5.925,-2.039 h1.2
  text "CC1" at 1.822,1.136 h1.2
  text "GND" at 1.822,-2.547 h1.2
Mechanical 1:
  circle w0.013: c0,0 r0.7
  circle w0.013: c0,-3.6 r0.7
  circle w0.013: c0,-19 r0.7
  circle w0.013: c0,-22.6 r0.7
  circle w0.013: c-4,-22.6 r0.7
  circle w0.013: c-4,-19 r0.7
  circle w0.013: c-4,-3.6 r0.7
  circle w0.013: c-4,0 r0.7
  lines w0.013: -13,-25.3 ccw(c-11,-25.3) -11,-27.3 11,-27.3 ccw(c11,-25.3) 13,-25.3 13,2.7 ccw(c11,2.7) 11,4.7 -11,4.7 ccw(c-11,2.7) -13,2.7 -13,-25.3
3D body: height 0.01, standoff 0, extent -0.013,-0.013 0.013,0.012